# EAGLE library part DPDT-6 (library other)
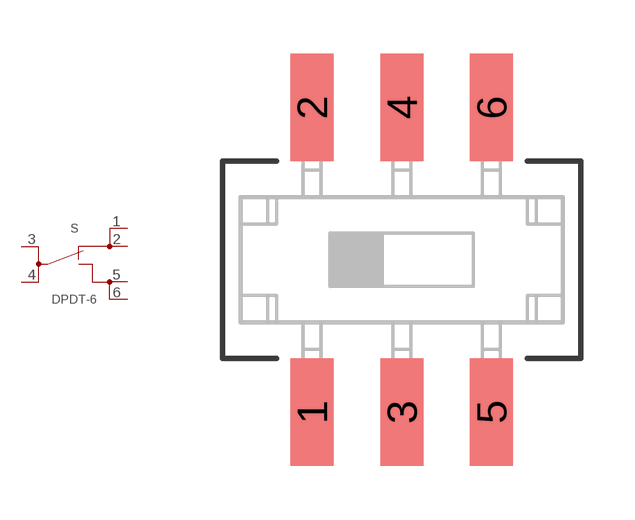
[diagram p3: symbol with the pads of DPDT; footprint DPDT]

Designator prefix S

## DPDT-6  [DPDT]
1  1  pas
2  2  pas
3  3  pas
4  4  pas
5  5  pas
6  6  pas

## Footprint DPDT (pad centres in mm)
smd 1.2 x 3: 1 -2.5,-4.25; 2 -2.5,4.25; 3 0,-4.25; 4 0,4.25; 5 2.5,-4.25; 6 2.5,4.25